# Altium integrated library SMBJ12A.IntLib: 1 symbol
Pins are listed as number, name and electrical type; pins without a type are passive.

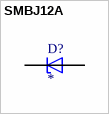
[diagram p0: symbol SMBJ12A]

## SMBJ12A
designator D?
600W, 14V, 5%, Unidirectional, TVS; MF: Taiwan Semiconductor Corporation; MP: SMBJ12A; SnapEDA_Link: https://www.snapeda.com/parts/SMBJ12A/taiwan/view-part/?ref=snap; Package: SMD-2 Taiwan Semiconductor; Value: *; Check_prices: https://www.snapeda.com/parts/SMBJ12A/taiwan/view-part/?ref=eda
footprint DIOM4336X265N
pins: A, C